# Altium footprint library QFN50P700X700X100-49N-D.PcbLib: 1 footprints
Each footprint in its own frame and in the unit in brackets; x right, y up, seen from the top. Pads: shape width x height; smd on the part's side, far side on the other; paste and mask are expansions set on the pad; w line width, h text height; cw(c..) or ccw(c..) is an arc to the next point about the centre after c.
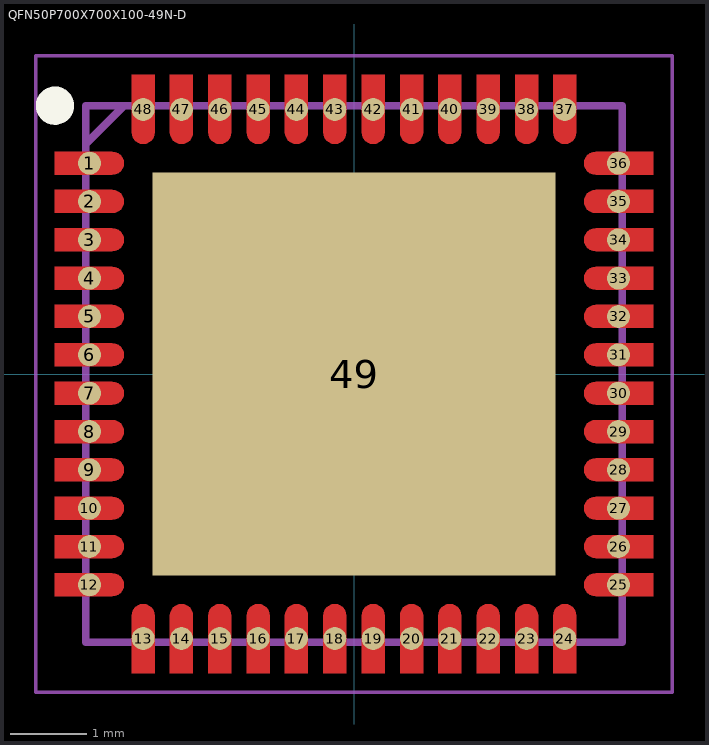
[diagram p0: the footprint, top view; thin cyan lines are the x and y axes]

## QFN50P700X700X100-49N-D [mm]
pads (49):
  round 0.3 smd: 1(-3.45,2.75) 2(-3.45,2.25) 3(-3.45,1.75) 4(-3.45,1.25) 5(-3.45,0.75) 6(-3.45,0.25) 7(-3.45,-0.25) 8(-3.45,-0.75) 9(-3.45,-1.25) 10(-3.45,-1.75) 11(-3.45,-2.25) 12(-3.45,-2.75) 13(-2.75,-3.45) 14(-2.25,-3.45) 15(-1.75,-3.45) 16(-1.25,-3.45) 17(-0.75,-3.45) 18(-0.25,-3.45) 19(0.25,-3.45) 20(0.75,-3.45) 21(1.25,-3.45) 22(1.75,-3.45) 23(2.25,-3.45) 24(2.75,-3.45) 25(3.45,-2.75) 26(3.45,-2.25) 27(3.45,-1.75) 28(3.45,-1.25) 29(3.45,-0.75) 30(3.45,-0.25) 31(3.45,0.25) 32(3.45,0.75) 33(3.45,1.25) 34(3.45,1.75) 35(3.45,2.25) 36(3.45,2.75) 37(2.75,3.45) 38(2.25,3.45) 39(1.75,3.45) 40(1.25,3.45) 41(0.75,3.45) 42(0.25,3.45) 43(-0.25,3.45) 44(-0.75,3.45) 45(-1.25,3.45) 46(-1.75,3.45) 47(-2.25,3.45) 48(-2.75,3.45)
  rect 5.25x5.25 smd: 49(0,0)
L1-Top Layer:
  region: -3.9,2.9 -3.15,2.9 -3.111,2.895 -3.075,2.88 -3.044,2.856 -3.02,2.825 -3.005,2.789 -3,2.75 -3.005,2.711 -3.02,2.675 -3.044,2.644 -3.075,2.62 -3.111,2.605 -3.15,2.6 -3.9,2.6
  region: -3.9,2.4 -3.15,2.4 -3.111,2.395 -3.075,2.38 -3.044,2.356 -3.02,2.325 -3.005,2.289 -3,2.25 -3.005,2.211 -3.02,2.175 -3.044,2.144 -3.075,2.12 -3.111,2.105 -3.15,2.1 -3.9,2.1
  region: -3.9,1.9 -3.15,1.9 -3.111,1.895 -3.075,1.88 -3.044,1.856 -3.02,1.825 -3.005,1.789 -3,1.75 -3.005,1.711 -3.02,1.675 -3.044,1.644 -3.075,1.62 -3.111,1.605 -3.15,1.6 -3.9,1.6
  region: -3.9,1.4 -3.15,1.4 -3.111,1.395 -3.075,1.38 -3.044,1.356 -3.02,1.325 -3.005,1.289 -3,1.25 -3.005,1.211 -3.02,1.175 -3.044,1.144 -3.075,1.12 -3.111,1.105 -3.15,1.1 -3.9,1.1
  region: -3.9,0.9 -3.15,0.9 -3.111,0.895 -3.075,0.88 -3.044,0.856 -3.02,0.825 -3.005,0.789 -3,0.75 -3.005,0.711 -3.02,0.675 -3.044,0.644 -3.075,0.62 -3.111,0.605 -3.15,0.6 -3.9,0.6
  region: -3.9,0.4 -3.15,0.4 -3.111,0.395 -3.075,0.38 -3.044,0.356 -3.02,0.325 -3.005,0.289 -3,0.25 -3.005,0.211 -3.02,0.175 -3.044,0.144 -3.075,0.12 -3.111,0.105 -3.15,0.1 -3.9,0.1
  region: -3.9,-0.1 -3.15,-0.1 -3.111,-0.105 -3.075,-0.12 -3.044,-0.144 -3.02,-0.175 -3.005,-0.211 -3,-0.25 -3.005,-0.289 -3.02,-0.325 -3.044,-0.356 -3.075,-0.38 -3.111,-0.395 -3.15,-0.4 -3.9,-0.4
  region: -3.9,-0.6 -3.15,-0.6 -3.111,-0.605 -3.075,-0.62 -3.044,-0.644 -3.02,-0.675 -3.005,-0.711 -3,-0.75 -3.005,-0.789 -3.02,-0.825 -3.044,-0.856 -3.075,-0.88 -3.111,-0.895 -3.15,-0.9 -3.9,-0.9
  region: -3.9,-1.1 -3.15,-1.1 -3.111,-1.105 -3.075,-1.12 -3.044,-1.144 -3.02,-1.175 -3.005,-1.211 -3,-1.25 -3.005,-1.289 -3.02,-1.325 -3.044,-1.356 -3.075,-1.38 -3.111,-1.395 -3.15,-1.4 -3.9,-1.4
  region: -3.9,-1.6 -3.15,-1.6 -3.111,-1.605 -3.075,-1.62 -3.044,-1.644 -3.02,-1.675 -3.005,-1.711 -3,-1.75 -3.005,-1.789 -3.02,-1.825 -3.044,-1.856 -3.075,-1.88 -3.111,-1.895 -3.15,-1.9 -3.9,-1.9
  region: -3.9,-2.1 -3.15,-2.1 -3.111,-2.105 -3.075,-2.12 -3.044,-2.144 -3.02,-2.175 -3.005,-2.211 -3,-2.25 -3.005,-2.289 -3.02,-2.325 -3.044,-2.356 -3.075,-2.38 -3.111,-2.395 -3.15,-2.4 -3.9,-2.4
  region: -3.9,-2.6 -3.15,-2.6 -3.111,-2.605 -3.075,-2.62 -3.044,-2.644 -3.02,-2.675 -3.005,-2.711 -3,-2.75 -3.005,-2.789 -3.02,-2.825 -3.044,-2.856 -3.075,-2.88 -3.111,-2.895 -3.15,-2.9 -3.9,-2.9
  region: -2.9,-3.9 -2.9,-3.15 -2.895,-3.111 -2.88,-3.075 -2.856,-3.044 -2.825,-3.02 -2.789,-3.005 -2.75,-3 -2.711,-3.005 -2.675,-3.02 -2.644,-3.044 -2.62,-3.075 -2.605,-3.111 -2.6,-3.15 -2.6,-3.9
  region: -2.4,-3.9 -2.4,-3.15 -2.395,-3.111 -2.38,-3.075 -2.356,-3.044 -2.325,-3.02 -2.289,-3.005 -2.25,-3 -2.211,-3.005 -2.175,-3.02 -2.144,-3.044 -2.12,-3.075 -2.105,-3.111 -2.1,-3.15 -2.1,-3.9
  region: -1.9,-3.9 -1.9,-3.15 -1.895,-3.111 -1.88,-3.075 -1.856,-3.044 -1.825,-3.02 -1.789,-3.005 -1.75,-3 -1.711,-3.005 -1.675,-3.02 -1.644,-3.044 -1.62,-3.075 -1.605,-3.111 -1.6,-3.15 -1.6,-3.9
  region: -1.4,-3.9 -1.4,-3.15 -1.395,-3.111 -1.38,-3.075 -1.356,-3.044 -1.325,-3.02 -1.289,-3.005 -1.25,-3 -1.211,-3.005 -1.175,-3.02 -1.144,-3.044 -1.12,-3.075 -1.105,-3.111 -1.1,-3.15 -1.1,-3.9
  region: -0.9,-3.9 -0.9,-3.15 -0.895,-3.111 -0.88,-3.075 -0.856,-3.044 -0.825,-3.02 -0.789,-3.005 -0.75,-3 -0.711,-3.005 -0.675,-3.02 -0.644,-3.044 -0.62,-3.075 -0.605,-3.111 -0.6,-3.15 -0.6,-3.9
  region: -0.4,-3.9 -0.4,-3.15 -0.395,-3.111 -0.38,-3.075 -0.356,-3.044 -0.325,-3.02 -0.289,-3.005 -0.25,-3 -0.211,-3.005 -0.175,-3.02 -0.144,-3.044 -0.12,-3.075 -0.105,-3.111 -0.1,-3.15 -0.1,-3.9
  region: 0.1,-3.9 0.1,-3.15 0.105,-3.111 0.12,-3.075 0.144,-3.044 0.175,-3.02 0.211,-3.005 0.25,-3 0.289,-3.005 0.325,-3.02 0.356,-3.044 0.38,-3.075 0.395,-3.111 0.4,-3.15 0.4,-3.9
  region: 0.6,-3.9 0.6,-3.15 0.605,-3.111 0.62,-3.075 0.644,-3.044 0.675,-3.02 0.711,-3.005 0.75,-3 0.789,-3.005 0.825,-3.02 0.856,-3.044 0.88,-3.075 0.895,-3.111 0.9,-3.15 0.9,-3.9
  region: 1.1,-3.9 1.1,-3.15 1.105,-3.111 1.12,-3.075 1.144,-3.044 1.175,-3.02 1.211,-3.005 1.25,-3 1.289,-3.005 1.325,-3.02 1.356,-3.044 1.38,-3.075 1.395,-3.111 1.4,-3.15 1.4,-3.9
  region: 1.6,-3.9 1.6,-3.15 1.605,-3.111 1.62,-3.075 1.644,-3.044 1.675,-3.02 1.711,-3.005 1.75,-3 1.789,-3.005 1.825,-3.02 1.856,-3.044 1.88,-3.075 1.895,-3.111 1.9,-3.15 1.9,-3.9
  region: 2.1,-3.9 2.1,-3.15 2.105,-3.111 2.12,-3.075 2.144,-3.044 2.175,-3.02 2.211,-3.005 2.25,-3 2.289,-3.005 2.325,-3.02 2.356,-3.044 2.38,-3.075 2.395,-3.111 2.4,-3.15 2.4,-3.9
  region: 2.6,-3.9 2.6,-3.15 2.605,-3.111 2.62,-3.075 2.644,-3.044 2.675,-3.02 2.711,-3.005 2.75,-3 2.789,-3.005 2.825,-3.02 2.856,-3.044 2.88,-3.075 2.895,-3.111 2.9,-3.15 2.9,-3.9
  region: 3.9,-2.9 3.15,-2.9 3.111,-2.895 3.075,-2.88 3.044,-2.856 3.02,-2.825 3.005,-2.789 3,-2.75 3.005,-2.711 3.02,-2.675 3.044,-2.644 3.075,-2.62 3.111,-2.605 3.15,-2.6 3.9,-2.6
  region: 3.9,-2.4 3.15,-2.4 3.111,-2.395 3.075,-2.38 3.044,-2.356 3.02,-2.325 3.005,-2.289 3,-2.25 3.005,-2.211 3.02,-2.175 3.044,-2.144 3.075,-2.12 3.111,-2.105 3.15,-2.1 3.9,-2.1
  region: 3.9,-1.9 3.15,-1.9 3.111,-1.895 3.075,-1.88 3.044,-1.856 3.02,-1.825 3.005,-1.789 3,-1.75 3.005,-1.711 3.02,-1.675 3.044,-1.644 3.075,-1.62 3.111,-1.605 3.15,-1.6 3.9,-1.6
  region: 3.9,-1.4 3.15,-1.4 3.111,-1.395 3.075,-1.38 3.044,-1.356 3.02,-1.325 3.005,-1.289 3,-1.25 3.005,-1.211 3.02,-1.175 3.044,-1.144 3.075,-1.12 3.111,-1.105 3.15,-1.1 3.9,-1.1
  region: 3.9,-0.9 3.15,-0.9 3.111,-0.895 3.075,-0.88 3.044,-0.856 3.02,-0.825 3.005,-0.789 3,-0.75 3.005,-0.711 3.02,-0.675 3.044,-0.644 3.075,-0.62 3.111,-0.605 3.15,-0.6 3.9,-0.6
  region: 3.9,-0.4 3.15,-0.4 3.111,-0.395 3.075,-0.38 3.044,-0.356 3.02,-0.325 3.005,-0.289 3,-0.25 3.005,-0.211 3.02,-0.175 3.044,-0.144 3.075,-0.12 3.111,-0.105 3.15,-0.1 3.9,-0.1
  region: 3.9,0.1 3.15,0.1 3.111,0.105 3.075,0.12 3.044,0.144 3.02,0.175 3.005,0.211 3,0.25 3.005,0.289 3.02,0.325 3.044,0.356 3.075,0.38 3.111,0.395 3.15,0.4 3.9,0.4
  region: 3.9,0.6 3.15,0.6 3.111,0.605 3.075,0.62 3.044,0.644 3.02,0.675 3.005,0.711 3,0.75 3.005,0.789 3.02,0.825 3.044,0.856 3.075,0.88 3.111,0.895 3.15,0.9 3.9,0.9
  region: 3.9,1.1 3.15,1.1 3.111,1.105 3.075,1.12 3.044,1.144 3.02,1.175 3.005,1.211 3,1.25 3.005,1.289 3.02,1.325 3.044,1.356 3.075,1.38 3.111,1.395 3.15,1.4 3.9,1.4
  region: 3.9,1.6 3.15,1.6 3.111,1.605 3.075,1.62 3.044,1.644 3.02,1.675 3.005,1.711 3,1.75 3.005,1.789 3.02,1.825 3.044,1.856 3.075,1.88 3.111,1.895 3.15,1.9 3.9,1.9
  region: 3.9,2.1 3.15,2.1 3.111,2.105 3.075,2.12 3.044,2.144 3.02,2.175 3.005,2.211 3,2.25 3.005,2.289 3.02,2.325 3.044,2.356 3.075,2.38 3.111,2.395 3.15,2.4 3.9,2.4
  region: 3.9,2.6 3.15,2.6 3.111,2.605 3.075,2.62 3.044,2.644 3.02,2.675 3.005,2.711 3,2.75 3.005,2.789 3.02,2.825 3.044,2.856 3.075,2.88 3.111,2.895 3.15,2.9 3.9,2.9
  region: 2.9,3.9 2.9,3.15 2.895,3.111 2.88,3.075 2.856,3.044 2.825,3.02 2.789,3.005 2.75,3 2.711,3.005 2.675,3.02 2.644,3.044 2.62,3.075 2.605,3.111 2.6,3.15 2.6,3.9
  region: 2.4,3.9 2.4,3.15 2.395,3.111 2.38,3.075 2.356,3.044 2.325,3.02 2.289,3.005 2.25,3 2.211,3.005 2.175,3.02 2.144,3.044 2.12,3.075 2.105,3.111 2.1,3.15 2.1,3.9
  region: 1.9,3.9 1.9,3.15 1.895,3.111 1.88,3.075 1.856,3.044 1.825,3.02 1.789,3.005 1.75,3 1.711,3.005 1.675,3.02 1.644,3.044 1.62,3.075 1.605,3.111 1.6,3.15 1.6,3.9
  region: 1.4,3.9 1.4,3.15 1.395,3.111 1.38,3.075 1.356,3.044 1.325,3.02 1.289,3.005 1.25,3 1.211,3.005 1.175,3.02 1.144,3.044 1.12,3.075 1.105,3.111 1.1,3.15 1.1,3.9
  region: 0.9,3.9 0.9,3.15 0.895,3.111 0.88,3.075 0.856,3.044 0.825,3.02 0.789,3.005 0.75,3 0.711,3.005 0.675,3.02 0.644,3.044 0.62,3.075 0.605,3.111 0.6,3.15 0.6,3.9
  region: 0.4,3.9 0.4,3.15 0.395,3.111 0.38,3.075 0.356,3.044 0.325,3.02 0.289,3.005 0.25,3 0.211,3.005 0.175,3.02 0.144,3.044 0.12,3.075 0.105,3.111 0.1,3.15 0.1,3.9
  region: -0.1,3.9 -0.1,3.15 -0.105,3.111 -0.12,3.075 -0.144,3.044 -0.175,3.02 -0.211,3.005 -0.25,3 -0.289,3.005 -0.325,3.02 -0.356,3.044 -0.38,3.075 -0.395,3.111 -0.4,3.15 -0.4,3.9
  region: -0.6,3.9 -0.6,3.15 -0.605,3.111 -0.62,3.075 -0.644,3.044 -0.675,3.02 -0.711,3.005 -0.75,3 -0.789,3.005 -0.825,3.02 -0.856,3.044 -0.88,3.075 -0.895,3.111 -0.9,3.15 -0.9,3.9
  region: -1.1,3.9 -1.1,3.15 -1.105,3.111 -1.12,3.075 -1.144,3.044 -1.175,3.02 -1.211,3.005 -1.25,3 -1.289,3.005 -1.325,3.02 -1.356,3.044 -1.38,3.075 -1.395,3.111 -1.4,3.15 -1.4,3.9
  region: -1.6,3.9 -1.6,3.15 -1.605,3.111 -1.62,3.075 -1.644,3.044 -1.675,3.02 -1.711,3.005 -1.75,3 -1.789,3.005 -1.825,3.02 -1.856,3.044 -1.88,3.075 -1.895,3.111 -1.9,3.15 -1.9,3.9
  region: -2.1,3.9 -2.1,3.15 -2.105,3.111 -2.12,3.075 -2.144,3.044 -2.175,3.02 -2.211,3.005 -2.25,3 -2.289,3.005 -2.325,3.02 -2.356,3.044 -2.38,3.075 -2.395,3.111 -2.4,3.15 -2.4,3.9
  region: -2.6,3.9 -2.6,3.15 -2.605,3.111 -2.62,3.075 -2.644,3.044 -2.675,3.02 -2.711,3.005 -2.75,3 -2.789,3.005 -2.825,3.02 -2.856,3.044 -2.88,3.075 -2.895,3.111 -2.9,3.15 -2.9,3.9
Top Overlay:
  circle w0.25: c-3.9,3.5 r0.125
Mechanical 15:
  lines w0.1: -3.5,3 -3,3.5 ; -3.5,-3.5 3.5,-3.5 3.5,3.5 -3.5,3.5 -3.5,-3.5
Mechanical 20:
  lines w0.05: -4.15,-4.15 4.15,-4.15 4.15,4.15 -4.15,4.15 -4.15,-4.15
3D body "DRV8323RSRGZT.stp": height 5.8, standoff -4.65, extent -10,-3.376 10,3.376